# Altium footprint library AUVic_PCB_Library_Resistors.PcbLib: 13 footprints
Each footprint in its own frame and in the unit in brackets; x right, y up, seen from the top. Pads: shape width x height; smd on the part's side, far side on the other; paste and mask are expansions set on the pad; w line width, h text height; cw(c..) or ccw(c..) is an arc to the next point about the centre after c.
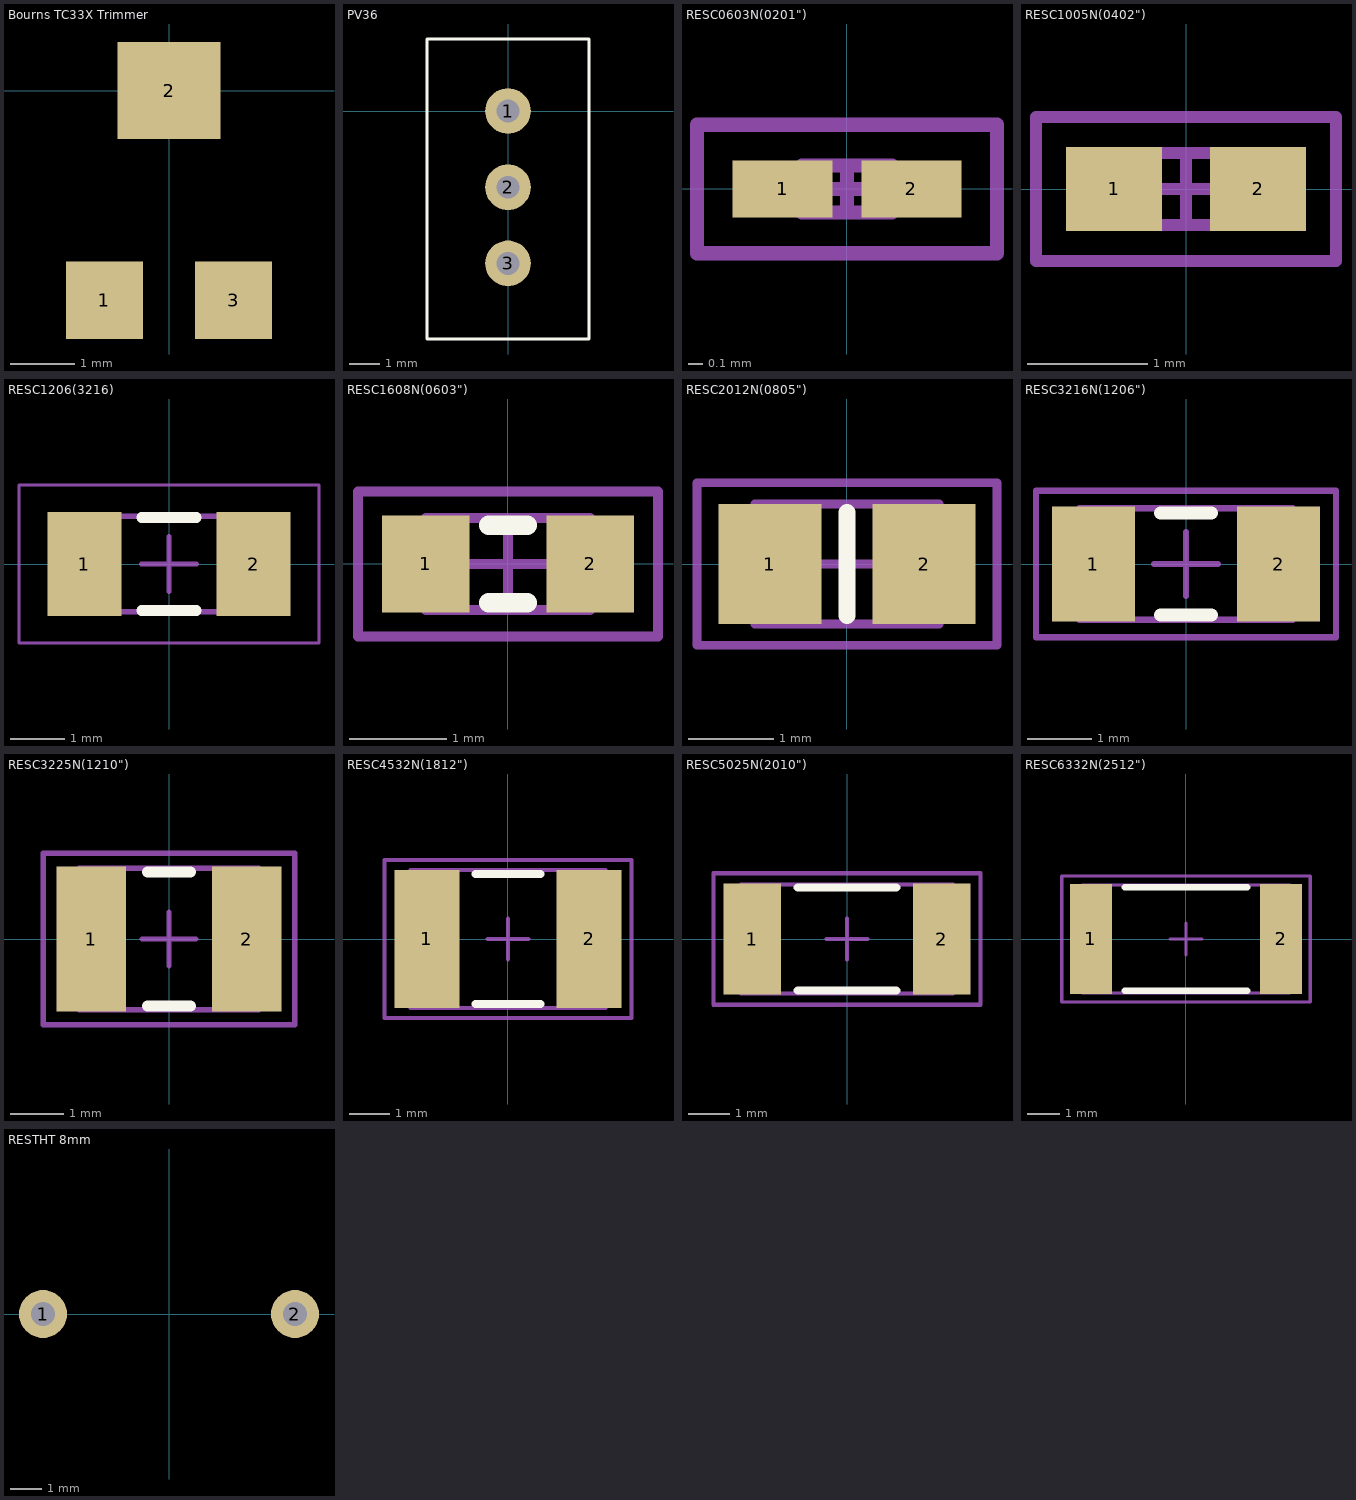
[diagram p0: the footprints below, top view; thin cyan lines are the x and y axes]

## Bourns TC33X Trimmer [mm]
pads (3):
  rect 1.2x1.2 smd: 1(-1,-3.25) 3(1,-3.25)
  rect 1.6x1.5 smd: 2(0,0)
3D body "User Library-EVM2W.STEP": height 1.05, standoff 0, extent -1.1,-3.1 1.1,-0.35

## PV36 [mil]
pads (3):
  round 60 hole 30: 1(0,0) 2(0,-100) 3(0,-200)
Top Overlay:
  lines w3.94: -106.3,-299.21 -106.3,94.49 106.3,94.49 106.3,-299.21 -106.3,-299.21
3D body "User Library-PV36W.STEP": height 444.88, standoff -59.06, extent -98.43,-291.34 98.43,86.61

## RESC0603N(0201") [mm] "Chip Resistor, Body 0.6x0.3mm (0201\"), IPC Medium Density"
height 0.3
pads (2):
  rect 0.7x0.4 smd: 1(-0.45,0) 2(0.45,0)
Body Top:
  lines w0.1: -0.315,-0.165 0.315,-0.165 0.315,0.165 -0.315,0.165 -0.315,-0.165
Courtyard Top:
  lines w0.1: -0.165,0 0.165,0 ; 0,-0.165 0,0.165 ; -1.05,-0.45 1.05,-0.45 1.05,0.45 -1.05,0.45 -1.05,-0.45
3D body "User Library-RES_0603-0201.step": height 0.34, standoff 0, extent -0.34,-0.165 0.34,0.165

## RESC1005N(0402") [mm] "Chip Resistor, Body 1.1x0.5mm (0402\"), IPC Medium Density"
height 0.4
pads (2):
  rect 0.8x0.7 smd: 1(-0.6,0) 2(0.6,0)
Body Top:
  lines w0.1: -0.55,-0.3 0.55,-0.3 0.55,0.3 -0.55,0.3 -0.55,-0.3
  text ".Designator" at -1.3,-0.3 h0.25
Courtyard Top:
  lines w0.1: -0.3,0 0.3,0 ; 0,-0.3 0,0.3 ; -1.25,-0.6 1.25,-0.6 1.25,0.6 -1.25,0.6 -1.25,-0.6
3D body "User Library-RESC1005X04N.step": height 0.35, standoff 0, extent -0.5,-0.25 0.5,0.25

## RESC1206(3216) [mm] "Chip Resistor, Body 3.2x1.6mm, IPC Low Density"
height 0.75
pads (2):
  rect 1.35x1.9 smd: 1(-1.55,0) 2(1.55,0)
Top Overlay:
  lines w0.2: -0.5,-0.85 0.5,-0.85 ; -0.5,0.85 0.5,0.85
Body Top:
  lines w0.1: -1.675,-0.875 1.675,-0.875 1.675,0.875 -1.675,0.875 -1.675,-0.875
Courtyard Top:
  lines w0.05: -2.75,-1.45 2.75,-1.45 2.75,1.45 -2.75,1.45 -2.75,-1.45
  lines w0.1: -0.5,0 0.5,0 ; 0,-0.5 0,0.5
3D body: height 0.75, standoff 0, extent -1.674,-0.874 -1.18,0.875
3D body: height 0.75, standoff 0, extent -1.18,-0.874 1.181,0.875
3D body: height 0.75, standoff 0, extent 1.181,-0.874 1.675,0.875

## RESC1608N(0603") [mm] "Chip Resistor, Body 1.6x0.8mm (0603\"), IPC Medium Density"
height 0.6
pads (2):
  rect 0.9x1 smd: 1(-0.85,0) 2(0.85,0)
Top Overlay:
  lines w0.2: -0.2,-0.4 0.2,-0.4 ; -0.2,0.4 0.2,0.4
Body Top:
  lines w0.1: -0.85,-0.475 -0.85,0.475 0.85,0.475 0.85,-0.475 -0.85,-0.475
  text ".Designator" at -2,-0.3 h0.38
Courtyard Top:
  lines w0.1: -0.475,0 0.475,0 ; 0,-0.475 0,0.475 ; -1.55,-0.75 -1.55,0.75 1.55,0.75 1.55,-0.75 -1.55,-0.75
3D body "RESC1608X05N.STEP": height 0.44, standoff -0.01, extent -0.775,-0.425 0.775,0.425

## RESC2012N(0805") [mm] "Chip Resistor, Body 2.0x1.3mm (0805\"), IPC Medium Density"
height 0.65
pads (2):
  rect 1.2x1.4 smd: 1(-0.9,0) 2(0.9,0)
Top Overlay:
  lines w0.2: 0,-0.6 0,0.6
Body Top:
  lines w0.1: -1.075,-0.7 1.075,-0.7 1.075,0.7 -1.075,0.7 -1.075,-0.7
  text ".Designator" at -2.6,-0.4 h0.51
Courtyard Top:
  lines w0.1: -0.5,0 0.5,0 ; 0,-0.5 0,0.5 ; -1.75,-0.95 1.75,-0.95 1.75,0.95 -1.75,0.95 -1.75,-0.95
3D body "User Library-RESC2012X05N.step": height 0.45, standoff 0, extent -1,-0.625 1,0.625

## RESC3216N(1206") [mm] "Chip Resistor, Body 3.2x1.6mm(1206\"), IPC Medium Density"
height 0.71
pads (2):
  rect 1.3x1.8 smd: 1(-1.45,0) 2(1.45,0)
Top Overlay:
  lines w0.2: -0.4,-0.8 0.4,-0.8 ; -0.4,0.8 0.4,0.8
Body Top:
  lines w0.1: -1.675,-0.875 1.675,-0.875 1.675,0.875 -1.675,0.875 -1.675,-0.875
  text ".Designator" at -2.6,-0.4 h0.51
Courtyard Top:
  lines w0.1: -0.5,0 0.5,0 ; 0,-0.5 0,0.5 ; -2.35,-1.15 2.35,-1.15 2.35,1.15 -2.35,1.15 -2.35,-1.15
3D body "User Library-RESC3216X06N.step": height 0.55, standoff 0, extent -1.6,-0.8 1.6,0.8

## RESC3225N(1210") [mm] "Chip Resistor, Body 3.2x2.5mm (1210\"), IPC Medium Density"
height 0.71
pads (2):
  rect 1.3x2.7 smd: 1(-1.45,0) 2(1.45,0)
Top Overlay:
  lines w0.2: -0.4,-1.25 0.4,-1.25 ; -0.4,1.25 0.4,1.25
Body Top:
  lines w0.1: -1.675,-1.32 1.675,-1.32 1.675,1.32 -1.675,1.32 -1.675,-1.32
  text ".Designator" at -3.9,-0.6 h0.51
Courtyard Top:
  lines w0.1: -0.5,0 0.5,0 ; 0,-0.5 0,0.5 ; -2.35,-1.6 2.35,-1.6 2.35,1.6 -2.35,1.6 -2.35,-1.6
3D body "User Library-RESC3225X06N.step": height 0.55, standoff 0, extent -1.6,-1.25 1.6,1.25

## RESC4532N(1812") [mm] "Chip Resistor, Body 4.5x3.2mm (1812\"), IPC Medium Density"
height 0.71
pads (2):
  rect 1.6x3.4 smd: 1(-2,0) 2(2,0)
Top Overlay:
  lines w0.2: -0.8,-1.6 0.8,-1.6 ; -0.8,1.6 0.8,1.6
Body Top:
  lines w0.1: -2.4,-1.7 -2.4,1.7 2.4,1.7 2.4,-1.7 -2.4,-1.7
  text ".Designator" at -3.9,-0.6 h0.76
Courtyard Top:
  lines w0.1: -0.5,0 0.5,0 ; 0,-0.5 0,0.5 ; -3.05,-1.95 -3.05,1.95 3.05,1.95 3.05,-1.95 -3.05,-1.95
3D body: height 0.71, standoff 0, extent -2.4,-1.7 2.4,1.7

## RESC5025N(2010") [mm] "Chip Resistor, Body 5.0x2.5mm (2010\"), IPC Medium Density"
height 0.71
pads (2):
  rect 1.4x2.7 smd: 1(-2.3,0) 2(2.3,0)
Top Overlay:
  lines w0.2: -1.2,-1.25 1.2,-1.25 ; -1.2,1.25 1.2,1.25
Body Top:
  lines w0.1: -2.575,-1.325 2.575,-1.325 2.575,1.325 -2.575,1.325 -2.575,-1.325
  text ".Designator" at -3.9,-0.6 h0.76
Courtyard Top:
  lines w0.1: -0.5,0 0.5,0 ; 0,-0.5 0,0.5 ; -3.25,-1.6 3.25,-1.6 3.25,1.6 -3.25,1.6 -3.25,-1.6
3D body: height 0.71, standoff 0, extent -2.575,-1.325 2.575,1.325

## RESC6332N(2512") [mm] "Chip Resistor, Body 6.3x3.2mm (2512\"), IPC Medium Density"
height 0.71
pads (2):
  rect 1.3x3.4 smd: 1(-2.95,0) 2(2.95,0)
Top Overlay:
  lines w0.2: -1.9,-1.6 1.9,-1.6 ; -1.9,1.6 1.9,1.6
Body Top:
  lines w0.1: -3.225,-1.675 -3.225,1.675 3.225,1.675 3.225,-1.675 -3.225,-1.675
  text ".Designator" at -3.9,-0.6 h0.76
Courtyard Top:
  lines w0.1: -0.5,0 0.5,0 ; 0,-0.5 0,0.5 ; -3.85,-1.95 -3.85,1.95 3.85,1.95 3.85,-1.95 -3.85,-1.95
3D body "User Library-RESC6432X06.step": height 0.6, standoff 0, extent -3.2,-1.6 3.2,1.6

## RESTHT 8mm [mil] "Resistor THT 30mil Hole, 8mm"
pads (2):
  round 60 hole 30: 1(-157.48,0) 2(157.48,0)